# Altium schematic symbol library X4621WV-2x25I-C28D40.SCHLIB: 1 symbol
Pins are listed as number, name and electrical type; pins without a type are passive.

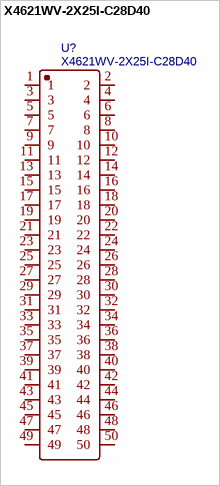
[diagram p0: symbol X4621WV-2X25I-C28D40]

## X4621WV-2X25I-C28D40
designator U?
BOM_Manufacturer: XKB Connectivity(中国星坤); Contributor: LCSC; BOM_Supplier: LCSC; BOM_Supplier Part: C2883311; BOM_Manufacturer Part: X4621WV-2x25I-C28D40; spicePre: U; spiceSymbolName: X4621WV-2X25I-C28D40
footprint HDR-TH_50P-P2.00-V-M-R2-C25-S2.00
pins: 1, 2, 3, 4, 5, 6, 7, 8, 9, 10, 11, 12, 13, 14, 15, 16, 17, 18, 19, 20, 21, 22, 23, 24, 25, 26, 27, 28, 29, 30, 31, 32, 33, 34, 35, 36, 37, 38, 39, 40, 41, 42, 43, 44, 45, 46, 47, 48, 49, 50